# Altium integrated library TI_Logic_Flip-Flop,Latch,Register.IntLib: 2598 symbols (part 18 of 122)
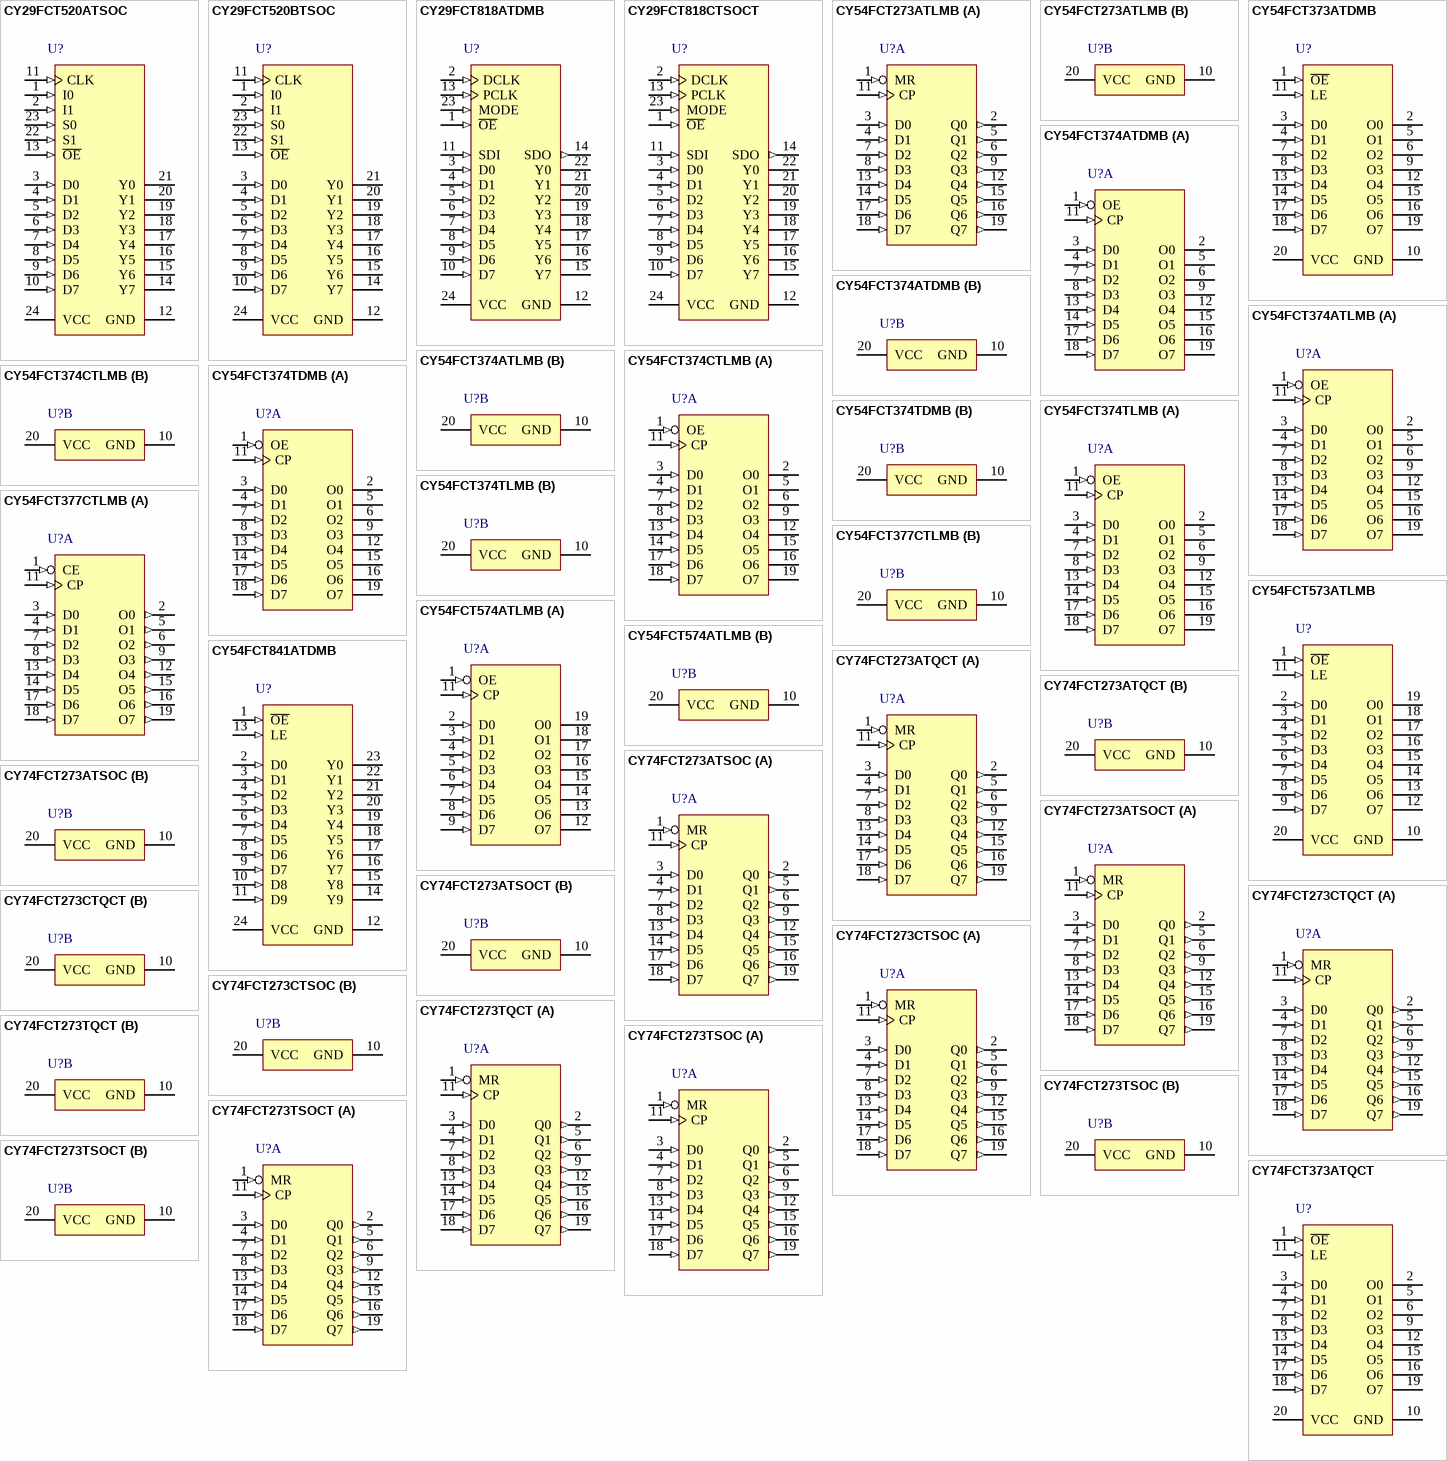
[diagram p156: symbols CY29FCT520ATSOC to CY74FCT373ATQCT]

## CY74FCT273TSOCT
designator U?
Octal D-Type Flip-Flops with Clear, DW0020A, LARGE T&R; Generic Part Number: CY74FCT273T; Manufacturer: Texas Instruments; PartNumber: CY74FCT273TSOCT; VCC(Min)(V): 4.75; VCC(Max)(V): 5.25; Output Type: CMOS; ICC @ Nom Voltage(Max)(mA): 0.2; Input Type: TTL; Bits(#): 8; F @ Nom Voltage(Max)(Mhz): 70; Rating: Catalog; Technology Family: FCT; Voltage(Nom)(V): 5; Schmitt Trigger: No; Output Drive (IOL/IOH)(Max)(mA): 64/-32; Output Logic: Non-inverted; tpd @ Nom Voltage(Max)(ns): 13; DatasheetVersion: SCCS020A; PackageReference: DW0020A; Supplier 1: Digi-Key; Supplier Part Number 1: CY74FCT273TSOCT-ND; Supplier 2: Mouser; Supplier Part Number 2: 595-CY74FCT273TSOCT; Operating Temperature Range(C): -40 to 85; 3-State Output: No; Code_JEDEC: MS-013; ComponentLink1Description: Manufacturer URL; ComponentLink1URL: http://www.ti.com/; ComponentLink2Description: Datasheet; ComponentLink2URL: http://www.ti.com/lit/ds/symlink/cy74fct273t.pdf; ComponentLink3Description: Package Specification; ComponentLink3URL: http://www.ti.com/lit/ml/mpds173a/mpds173a.pdf
footprint DW0020A_N (SOIC, 20-Leads, Body 13x7.6mm, Pitch 1.27mm, IPC Medium Density)
footprint DW0020A_M (SOIC, 20-Leads, Body 13x7.6mm, Pitch 1.27mm, IPC Low Density)
footprint DW0020A_L (SOIC, 20-Leads, Body 13x7.6mm, Pitch 1.27mm, IPC High Density)
part A pins: 1 MR (in), 2 Q0 (out), 3 D0 (in), 4 D1 (in), 5 Q1 (out), 6 Q2 (out), 7 D2 (in), 8 D3 (in), 9 Q3 (out), 11 CP (in), 12 Q4 (out), 13 D4 (in), 14 D5 (in), 15 Q5 (out), 16 Q6 (out), 17 D6 (in), 18 D7 (in), 19 Q7 (out)
part B pins: 10 GND (power), 20 VCC (power)

## CY74FCT373ATQCT
designator U?
Octal Transparent D-Type Latches with 3-State Outputs, DBQ0020A, LARGE T&R; Generic Part Number: CY74FCT373T; Manufacturer: Texas Instruments; PartNumber: CY74FCT373ATQCT; VCC(Min)(V): 4.75; VCC(Max)(V): 5.25; Output Type: CMOS; ICC @ Nom Voltage(Max)(mA): 0.2; Input Type: TTL; Bits(#): 8; F @ Nom Voltage(Max)(Mhz): 70; Rating: Catalog; Technology Family: FCT; Voltage(Nom)(V): 5; Schmitt Trigger: No; Output Drive (IOL/IOH)(Max)(mA): 64/-32; tpd @ Nom Voltage(Max)(ns): 5.2; DatasheetVersion: SCCS021B; PackageReference: DBQ0020A; Supplier 1: Digi-Key; Supplier Part Number 1: 296-14576-2-ND; Supplier 2: Digi-Key; Supplier Part Number 2: 296-14576-1-ND; Supplier 3: Digi-Key; Supplier Part Number 3: 296-14576-6-ND; Supplier 4: Mouser; Supplier Part Number 4: 595-CY74FCT373ATQCT; Operating Temperature Range(C): -40 to 85; Code_JEDEC: MO-137; ComponentLink1Description: Manufacturer URL; ComponentLink1URL: http://www.ti.com/; ComponentLink2Description: Datasheet; ComponentLink2URL: http://www.ti.com/lit/ds/symlink/cy74fct373t.pdf; ComponentLink3Description: Package Specification; ComponentLink3URL: http://www.ti.com/lit/ml/mpds210a/mpds210a.pdf
footprint DBQ0020A_N (SOP, 20-Leads, Body 8.8x4mm, Pitch 0.635mm, IPC Medium Density)
footprint DBQ0020A_M (SOP, 20-Leads, Body 8.8x4mm, Pitch 0.635mm, IPC Low Density)
footprint DBQ0020A_L (SOP, 20-Leads, Body 8.8x4mm, Pitch 0.635mm, IPC High Density)
pins: 1 ~{OE} (in), 2 O0 (hiz), 3 D0 (in), 4 D1 (in), 5 O1 (hiz), 6 O2 (hiz), 7 D2 (in), 8 D3 (in), 9 O3 (hiz), 10 GND (power), 11 LE (in), 12 O4 (hiz), 13 D4 (in), 14 D5 (in), 15 O5 (hiz), 16 O6 (hiz), 17 D6 (in), 18 D7 (in), 19 O7 (hiz), 20 VCC (power)

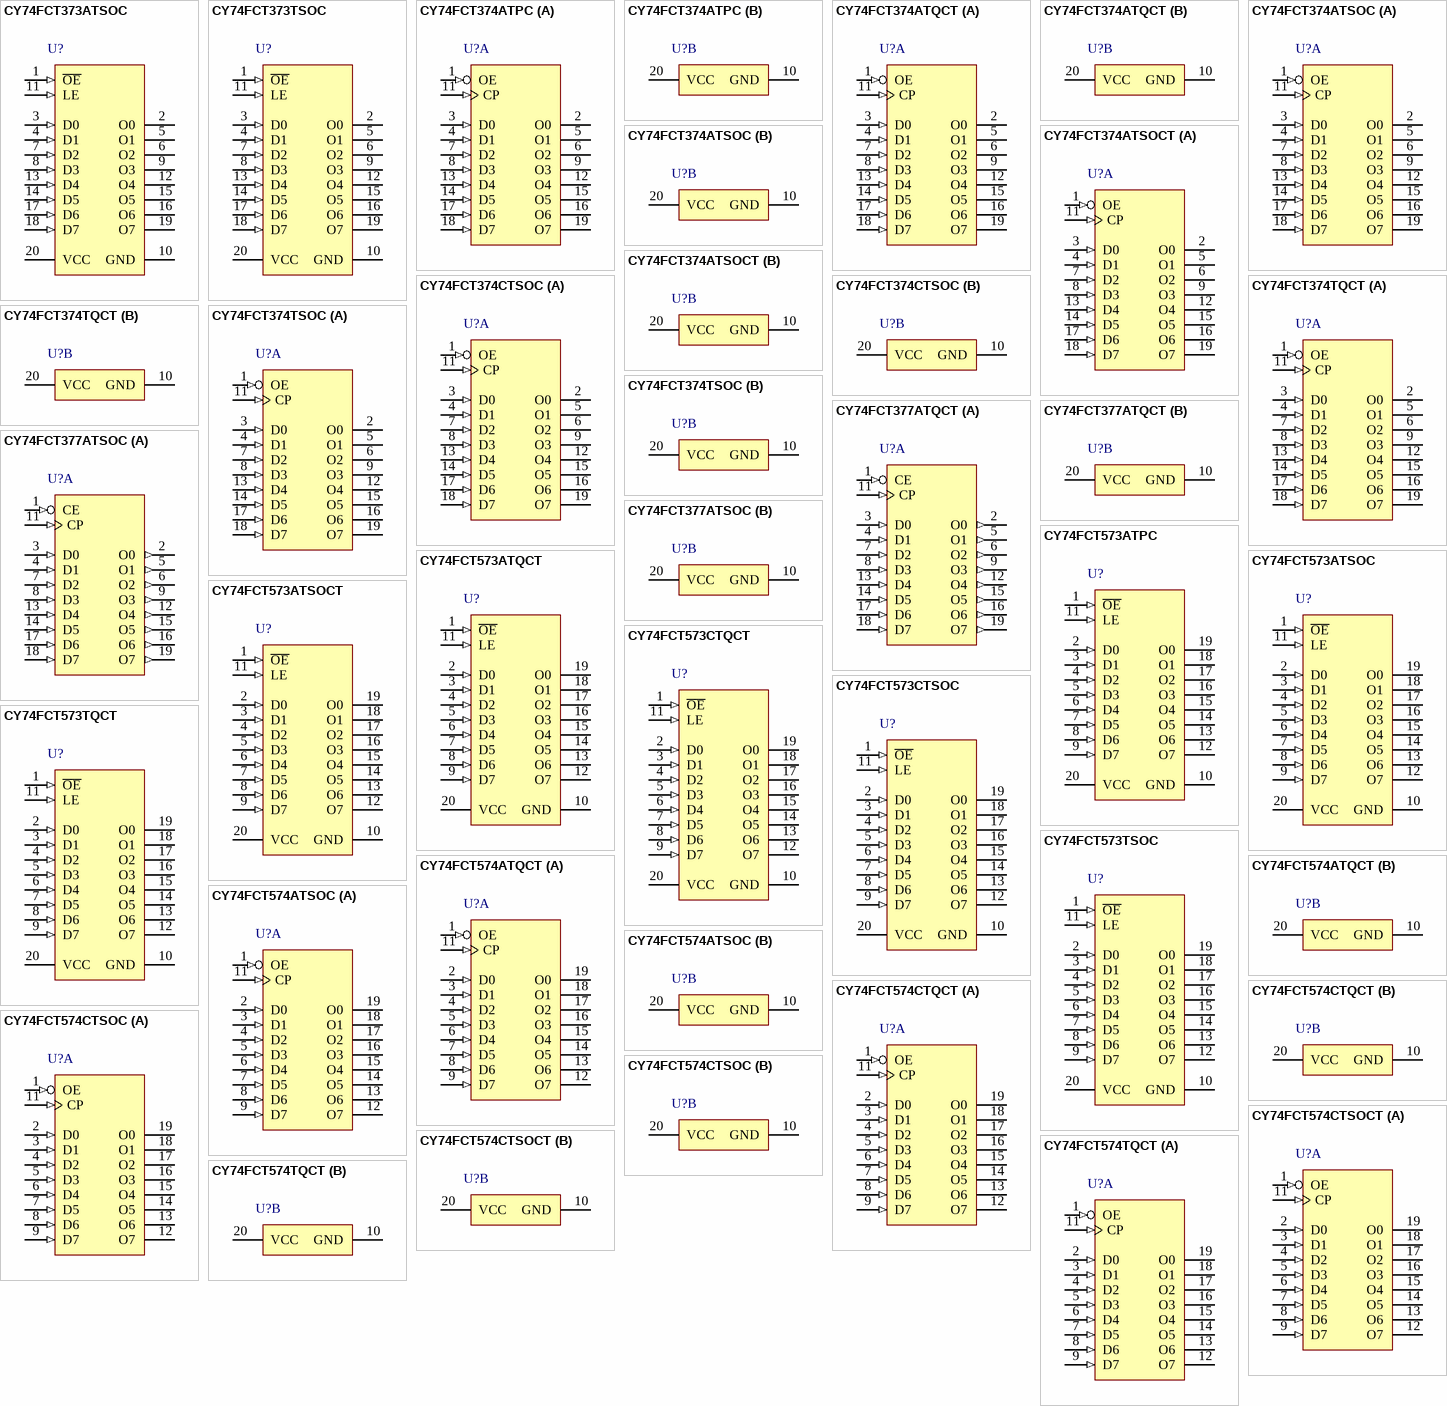
[diagram p25: symbols CY74FCT373ATSOC to CY74FCT574TQCT]

## CY74FCT373ATSOC
designator U?
Octal Transparent D-Type Latches with 3-State Outputs, DW0020A, TUBE; Generic Part Number: CY74FCT373T; Manufacturer: Texas Instruments; PartNumber: CY74FCT373ATSOC; VCC(Min)(V): 4.75; VCC(Max)(V): 5.25; Output Type: CMOS; ICC @ Nom Voltage(Max)(mA): 0.2; Input Type: TTL; Bits(#): 8; F @ Nom Voltage(Max)(Mhz): 70; Rating: Catalog; Technology Family: FCT; Voltage(Nom)(V): 5; Schmitt Trigger: No; Output Drive (IOL/IOH)(Max)(mA): 64/-32; tpd @ Nom Voltage(Max)(ns): 5.2; DatasheetVersion: SCCS021B; PackageReference: DW0020A; Supplier 1: Digi-Key; Supplier Part Number 1: 296-33231-5-ND; Supplier 2: Mouser; Supplier Part Number 2: 595-CY74FCT373ATSOC; Operating Temperature Range(C): -40 to 85; Code_JEDEC: MS-013; ComponentLink1Description: Manufacturer URL; ComponentLink1URL: http://www.ti.com/; ComponentLink2Description: Datasheet; ComponentLink2URL: http://www.ti.com/lit/ds/symlink/cy74fct373t.pdf; ComponentLink3Description: Package Specification; ComponentLink3URL: http://www.ti.com/lit/ml/mpds173a/mpds173a.pdf
footprint DW0020A_N (SOIC, 20-Leads, Body 13x7.6mm, Pitch 1.27mm, IPC Medium Density)
footprint DW0020A_M (SOIC, 20-Leads, Body 13x7.6mm, Pitch 1.27mm, IPC Low Density)
footprint DW0020A_L (SOIC, 20-Leads, Body 13x7.6mm, Pitch 1.27mm, IPC High Density)
pins: 1 ~{OE} (in), 2 O0 (hiz), 3 D0 (in), 4 D1 (in), 5 O1 (hiz), 6 O2 (hiz), 7 D2 (in), 8 D3 (in), 9 O3 (hiz), 10 GND (power), 11 LE (in), 12 O4 (hiz), 13 D4 (in), 14 D5 (in), 15 O5 (hiz), 16 O6 (hiz), 17 D6 (in), 18 D7 (in), 19 O7 (hiz), 20 VCC (power)

## CY74FCT373TSOC
designator U?
Octal Transparent D-Type Latches with 3-State Outputs, DW0020A, TUBE; Generic Part Number: CY74FCT373T; Manufacturer: Texas Instruments; PartNumber: CY74FCT373TSOC; VCC(Min)(V): 4.75; VCC(Max)(V): 5.25; Output Type: CMOS; ICC @ Nom Voltage(Max)(mA): 0.2; Input Type: TTL; Bits(#): 8; F @ Nom Voltage(Max)(Mhz): 70; Rating: Catalog; Technology Family: FCT; Voltage(Nom)(V): 5; Schmitt Trigger: No; Output Drive (IOL/IOH)(Max)(mA): 64/-32; Output Logic: Non-inverted; 3-State Output: Yes; DatasheetVersion: SCCS021B; PackageReference: DW0020A; Supplier 1: Digi-Key; Supplier Part Number 1: CY74FCT373TSOC-ND; Supplier 2: Mouser; Supplier Part Number 2: 595-CY74FCT373TSOC; Operating Temperature Range(C): -40 to 85; tpd @ Nom Voltage(Max)(ns): 8; Code_JEDEC: MS-013; ComponentLink1Description: Manufacturer URL; ComponentLink1URL: http://www.ti.com/; ComponentLink2Description: Datasheet; ComponentLink2URL: http://www.ti.com/lit/ds/symlink/cy74fct373t.pdf; ComponentLink3Description: Package Specification; ComponentLink3URL: http://www.ti.com/lit/ml/mpds173a/mpds173a.pdf
footprint DW0020A_N (SOIC, 20-Leads, Body 13x7.6mm, Pitch 1.27mm, IPC Medium Density)
footprint DW0020A_M (SOIC, 20-Leads, Body 13x7.6mm, Pitch 1.27mm, IPC Low Density)
footprint DW0020A_L (SOIC, 20-Leads, Body 13x7.6mm, Pitch 1.27mm, IPC High Density)
pins: 1 ~{OE} (in), 2 O0 (hiz), 3 D0 (in), 4 D1 (in), 5 O1 (hiz), 6 O2 (hiz), 7 D2 (in), 8 D3 (in), 9 O3 (hiz), 10 GND (power), 11 LE (in), 12 O4 (hiz), 13 D4 (in), 14 D5 (in), 15 O5 (hiz), 16 O6 (hiz), 17 D6 (in), 18 D7 (in), 19 O7 (hiz), 20 VCC (power)

## CY74FCT374ATPC
designator U?
Octal D-Type Registers with 3-State Outputs, N0020A, TUBE; Generic Part Number: CY74FCT374T; Manufacturer: Texas Instruments; PartNumber: CY74FCT374ATPC; VCC(Min)(V): 4.75; VCC(Max)(V): 5.25; Output Type: CMOS; ICC @ Nom Voltage(Max)(mA): 0.2; Input Type: TTL; Bits(#): 8; F @ Nom Voltage(Max)(Mhz): 70; Rating: Catalog; Technology Family: FCT; Voltage(Nom)(V): 5; Schmitt Trigger: No; Output Drive (IOL/IOH)(Max)(mA): 64/-32; tpd @ Nom Voltage(Max)(ns): 6.5; DatasheetVersion: SCCS022A; PackageReference: N0020A; Supplier 1: Digi-Key; Supplier Part Number 1: 296-33232-5-ND; Supplier 2: Farnell; Supplier Part Number 2: 1741459; Supplier 3: Newark; Supplier Part Number 3: 50R5545; Supplier 4: Mouser; Supplier Part Number 4: 595-CY74FCT374ATPC; Operating Temperature Range(C): -40 to 85; Code_JEDEC: MS-001; ComponentLink1Description: Manufacturer URL; ComponentLink1URL: http://www.ti.com/; ComponentLink2Description: Datasheet; ComponentLink2URL: http://www.ti.com/lit/ds/symlink/cy74fct374t.pdf; ComponentLink3Description: Package Specification; ComponentLink3URL: http://www.ti.com/lit/ml/mpdi002c/mpdi002c.pdf
footprint N0020A (DIP, 20-Leads, Body 26.9x6.6mm, Pitch 2.54mm)
part A pins: 1 OE (in), 2 O0 (hiz), 3 D0 (in), 4 D1 (in), 5 O1 (hiz), 6 O2 (hiz), 7 D2 (in), 8 D3 (in), 9 O3 (hiz), 11 CP (in), 12 O4 (hiz), 13 D4 (in), 14 D5 (in), 15 O5 (hiz), 16 O6 (hiz), 17 D6 (in), 18 D7 (in), 19 O7 (hiz)
part B pins: 10 GND (power), 20 VCC (power)

## CY74FCT374ATQCT
designator U?
Octal D-Type Registers with 3-State Outputs, DBQ0020A, LARGE T&R; Generic Part Number: CY74FCT374T; Manufacturer: Texas Instruments; PartNumber: CY74FCT374ATQCT; VCC(Min)(V): 4.75; VCC(Max)(V): 5.25; Output Type: CMOS; ICC @ Nom Voltage(Max)(mA): 0.2; Input Type: TTL; Bits(#): 8; F @ Nom Voltage(Max)(Mhz): 70; Rating: Catalog; Technology Family: FCT; Voltage(Nom)(V): 5; Schmitt Trigger: No; Output Drive (IOL/IOH)(Max)(mA): 64/-32; tpd @ Nom Voltage(Max)(ns): 6.5; DatasheetVersion: SCCS022A; PackageReference: DBQ0020A; Supplier 1: Digi-Key; Supplier Part Number 1: 296-14577-2-ND; Supplier 2: Digi-Key; Supplier Part Number 2: 296-14577-1-ND; Supplier 3: Digi-Key; Supplier Part Number 3: 296-14577-6-ND; Supplier 4: Newark; Supplier Part Number 4: 74C8998; Supplier 5: Mouser; Supplier Part Number 5: 595-CY74FCT374ATQCT; Operating Temperature Range(C): -40 to 85; Code_JEDEC: MO-137; ComponentLink1Description: Manufacturer URL; ComponentLink1URL: http://www.ti.com/; ComponentLink2Description: Datasheet; ComponentLink2URL: http://www.ti.com/lit/ds/symlink/cy74fct374t.pdf; ComponentLink3Description: Package Specification; ComponentLink3URL: http://www.ti.com/lit/ml/mpds210a/mpds210a.pdf
footprint DBQ0020A_N (SOP, 20-Leads, Body 8.8x4mm, Pitch 0.635mm, IPC Medium Density)
footprint DBQ0020A_M (SOP, 20-Leads, Body 8.8x4mm, Pitch 0.635mm, IPC Low Density)
footprint DBQ0020A_L (SOP, 20-Leads, Body 8.8x4mm, Pitch 0.635mm, IPC High Density)
part A pins: 1 OE (in), 2 O0 (hiz), 3 D0 (in), 4 D1 (in), 5 O1 (hiz), 6 O2 (hiz), 7 D2 (in), 8 D3 (in), 9 O3 (hiz), 11 CP (in), 12 O4 (hiz), 13 D4 (in), 14 D5 (in), 15 O5 (hiz), 16 O6 (hiz), 17 D6 (in), 18 D7 (in), 19 O7 (hiz)
part B pins: 10 GND (power), 20 VCC (power)

## CY74FCT374ATSOC
designator U?
Octal D-Type Registers with 3-State Outputs, DW0020A, TUBE; Generic Part Number: CY74FCT374T; Manufacturer: Texas Instruments; PartNumber: CY74FCT374ATSOC; VCC(Min)(V): 4.75; VCC(Max)(V): 5.25; Output Type: CMOS; ICC @ Nom Voltage(Max)(mA): 0.2; Input Type: TTL; Bits(#): 8; F @ Nom Voltage(Max)(Mhz): 70; Rating: Catalog; Technology Family: FCT; Voltage(Nom)(V): 5; Schmitt Trigger: No; Output Drive (IOL/IOH)(Max)(mA): 64/-32; tpd @ Nom Voltage(Max)(ns): 6.5; DatasheetVersion: SCCS022A; PackageReference: DW0020A; Supplier 1: Digi-Key; Supplier Part Number 1: 296-33233-5-ND; Supplier 2: Mouser; Supplier Part Number 2: 595-CY74FCT374ATSOC; Operating Temperature Range(C): -40 to 85; Code_JEDEC: MS-013; ComponentLink1Description: Manufacturer URL; ComponentLink1URL: http://www.ti.com/; ComponentLink2Description: Datasheet; ComponentLink2URL: http://www.ti.com/lit/ds/symlink/cy74fct374t.pdf; ComponentLink3Description: Package Specification; ComponentLink3URL: http://www.ti.com/lit/ml/mpds173a/mpds173a.pdf
footprint DW0020A_N (SOIC, 20-Leads, Body 13x7.6mm, Pitch 1.27mm, IPC Medium Density)
footprint DW0020A_M (SOIC, 20-Leads, Body 13x7.6mm, Pitch 1.27mm, IPC Low Density)
footprint DW0020A_L (SOIC, 20-Leads, Body 13x7.6mm, Pitch 1.27mm, IPC High Density)
part A pins: 1 OE (in), 2 O0 (hiz), 3 D0 (in), 4 D1 (in), 5 O1 (hiz), 6 O2 (hiz), 7 D2 (in), 8 D3 (in), 9 O3 (hiz), 11 CP (in), 12 O4 (hiz), 13 D4 (in), 14 D5 (in), 15 O5 (hiz), 16 O6 (hiz), 17 D6 (in), 18 D7 (in), 19 O7 (hiz)
part B pins: 10 GND (power), 20 VCC (power)

## CY74FCT374ATSOCT
designator U?
Octal D-Type Registers with 3-State Outputs, DW0020A, LARGE T&R; Generic Part Number: CY74FCT374T; Manufacturer: Texas Instruments; PartNumber: CY74FCT374ATSOCT; VCC(Min)(V): 4.75; VCC(Max)(V): 5.25; Output Type: CMOS; ICC @ Nom Voltage(Max)(mA): 0.2; Input Type: TTL; Bits(#): 8; F @ Nom Voltage(Max)(Mhz): 70; Rating: Catalog; Technology Family: FCT; Voltage(Nom)(V): 5; Schmitt Trigger: No; Output Drive (IOL/IOH)(Max)(mA): 64/-32; tpd @ Nom Voltage(Max)(ns): 6.5; DatasheetVersion: SCCS022A; PackageReference: DW0020A; Supplier 1: Digi-Key; Supplier Part Number 1: CY74FCT374ATSOCT-ND; Supplier 2: Mouser; Supplier Part Number 2: 595-CY74FCT374ATSOCT; Operating Temperature Range(C): -40 to 85; Code_JEDEC: MS-013; ComponentLink1Description: Manufacturer URL; ComponentLink1URL: http://www.ti.com/; ComponentLink2Description: Datasheet; ComponentLink2URL: http://www.ti.com/lit/ds/symlink/cy74fct374t.pdf; ComponentLink3Description: Package Specification; ComponentLink3URL: http://www.ti.com/lit/ml/mpds173a/mpds173a.pdf
footprint DW0020A_N (SOIC, 20-Leads, Body 13x7.6mm, Pitch 1.27mm, IPC Medium Density)
footprint DW0020A_M (SOIC, 20-Leads, Body 13x7.6mm, Pitch 1.27mm, IPC Low Density)
footprint DW0020A_L (SOIC, 20-Leads, Body 13x7.6mm, Pitch 1.27mm, IPC High Density)
part A pins: 1 OE (in), 2 O0 (hiz), 3 D0 (in), 4 D1 (in), 5 O1 (hiz), 6 O2 (hiz), 7 D2 (in), 8 D3 (in), 9 O3 (hiz), 11 CP (in), 12 O4 (hiz), 13 D4 (in), 14 D5 (in), 15 O5 (hiz), 16 O6 (hiz), 17 D6 (in), 18 D7 (in), 19 O7 (hiz)
part B pins: 10 GND (power), 20 VCC (power)

## CY74FCT374CTSOC
designator U?
Octal D-Type Registers with 3-State Outputs, DW0020A, TUBE; Generic Part Number: CY74FCT374T; Manufacturer: Texas Instruments; PartNumber: CY74FCT374CTSOC; VCC(Min)(V): 4.75; VCC(Max)(V): 5.25; Output Type: CMOS; ICC @ Nom Voltage(Max)(mA): 0.2; Input Type: TTL; Bits(#): 8; F @ Nom Voltage(Max)(Mhz): 70; Rating: Catalog; Technology Family: FCT; Voltage(Nom)(V): 5; Schmitt Trigger: No; Output Drive (IOL/IOH)(Max)(mA): 64/-32; tpd @ Nom Voltage(Max)(ns): 5.2; DatasheetVersion: SCCS022A; PackageReference: DW0020A; Supplier 1: Digi-Key; Supplier Part Number 1: CY74FCT374CTSOC-ND; Supplier 2: Mouser; Supplier Part Number 2: 595-CY74FCT374CTSOC; Operating Temperature Range(C): -40 to 85; Code_JEDEC: MS-013; ComponentLink1Description: Manufacturer URL; ComponentLink1URL: http://www.ti.com/; ComponentLink2Description: Datasheet; ComponentLink2URL: http://www.ti.com/lit/ds/symlink/cy74fct374t.pdf; ComponentLink3Description: Package Specification; ComponentLink3URL: http://www.ti.com/lit/ml/mpds173a/mpds173a.pdf
footprint DW0020A_N (SOIC, 20-Leads, Body 13x7.6mm, Pitch 1.27mm, IPC Medium Density)
footprint DW0020A_M (SOIC, 20-Leads, Body 13x7.6mm, Pitch 1.27mm, IPC Low Density)
footprint DW0020A_L (SOIC, 20-Leads, Body 13x7.6mm, Pitch 1.27mm, IPC High Density)
part A pins: 1 OE (in), 2 O0 (hiz), 3 D0 (in), 4 D1 (in), 5 O1 (hiz), 6 O2 (hiz), 7 D2 (in), 8 D3 (in), 9 O3 (hiz), 11 CP (in), 12 O4 (hiz), 13 D4 (in), 14 D5 (in), 15 O5 (hiz), 16 O6 (hiz), 17 D6 (in), 18 D7 (in), 19 O7 (hiz)
part B pins: 10 GND (power), 20 VCC (power)

## CY74FCT374TQCT
designator U?
Octal D-Type Registers with 3-State Outputs, DBQ0020A, LARGE T&R; Generic Part Number: CY74FCT374T; Manufacturer: Texas Instruments; PartNumber: CY74FCT374TQCT; VCC(Min)(V): 4.75; VCC(Max)(V): 5.25; Output Type: CMOS; ICC @ Nom Voltage(Max)(mA): 0.2; Input Type: TTL; Bits(#): 8; F @ Nom Voltage(Max)(Mhz): 70; Rating: Catalog; Technology Family: FCT; Voltage(Nom)(V): 5; Schmitt Trigger: No; Output Drive (IOL/IOH)(Max)(mA): 64/-32; Output Logic: Non-inverted; 3-State Output: Yes; tpd @ Nom Voltage(Max)(ns): 11; DatasheetVersion: SCCS022A; PackageReference: DBQ0020A; Supplier 1: Digi-Key; Supplier Part Number 1: 296-9442-2-ND; Supplier 2: Digi-Key; Supplier Part Number 2: 296-9442-1-ND; Supplier 3: Digi-Key; Supplier Part Number 3: 296-9442-6-ND; Supplier 4: Mouser; Supplier Part Number 4: 595-CY74FCT374TQCT; Operating Temperature Range(C): -40 to 85; Code_JEDEC: MO-137; ComponentLink1Description: Manufacturer URL; ComponentLink1URL: http://www.ti.com/; ComponentLink2Description: Datasheet; ComponentLink2URL: http://www.ti.com/lit/ds/symlink/cy74fct374t.pdf; ComponentLink3Description: Package Specification; ComponentLink3URL: http://www.ti.com/lit/ml/mpds210a/mpds210a.pdf
footprint DBQ0020A_N (SOP, 20-Leads, Body 8.8x4mm, Pitch 0.635mm, IPC Medium Density)
footprint DBQ0020A_M (SOP, 20-Leads, Body 8.8x4mm, Pitch 0.635mm, IPC Low Density)
footprint DBQ0020A_L (SOP, 20-Leads, Body 8.8x4mm, Pitch 0.635mm, IPC High Density)
part A pins: 1 OE (in), 2 O0 (hiz), 3 D0 (in), 4 D1 (in), 5 O1 (hiz), 6 O2 (hiz), 7 D2 (in), 8 D3 (in), 9 O3 (hiz), 11 CP (in), 12 O4 (hiz), 13 D4 (in), 14 D5 (in), 15 O5 (hiz), 16 O6 (hiz), 17 D6 (in), 18 D7 (in), 19 O7 (hiz)
part B pins: 10 GND (power), 20 VCC (power)

## CY74FCT374TSOC
designator U?
Octal D-Type Registers with 3-State Outputs, DW0020A, TUBE; Generic Part Number: CY74FCT374T; Manufacturer: Texas Instruments; PartNumber: CY74FCT374TSOC; VCC(Min)(V): 4.75; VCC(Max)(V): 5.25; Output Type: CMOS; ICC @ Nom Voltage(Max)(mA): 0.2; Input Type: TTL; Bits(#): 8; F @ Nom Voltage(Max)(Mhz): 70; Rating: Catalog; Technology Family: FCT; Voltage(Nom)(V): 5; Schmitt Trigger: No; Output Drive (IOL/IOH)(Max)(mA): 64/-32; Output Logic: Non-inverted; 3-State Output: Yes; tpd @ Nom Voltage(Max)(ns): 11; DatasheetVersion: SCCS022A; PackageReference: DW0020A; Supplier 1: Digi-Key; Supplier Part Number 1: CY74FCT374TSOC-ND; Supplier 2: Farnell; Supplier Part Number 2: 1741455; Supplier 3: Mouser; Supplier Part Number 3: 595-CY74FCT374TSOC; Operating Temperature Range(C): -40 to 85; Code_JEDEC: MS-013; ComponentLink1Description: Manufacturer URL; ComponentLink1URL: http://www.ti.com/; ComponentLink2Description: Datasheet; ComponentLink2URL: http://www.ti.com/lit/ds/symlink/cy74fct374t.pdf; ComponentLink3Description: Package Specification; ComponentLink3URL: http://www.ti.com/lit/ml/mpds173a/mpds173a.pdf
footprint DW0020A_N (SOIC, 20-Leads, Body 13x7.6mm, Pitch 1.27mm, IPC Medium Density)
footprint DW0020A_M (SOIC, 20-Leads, Body 13x7.6mm, Pitch 1.27mm, IPC Low Density)
footprint DW0020A_L (SOIC, 20-Leads, Body 13x7.6mm, Pitch 1.27mm, IPC High Density)
part A pins: 1 OE (in), 2 O0 (hiz), 3 D0 (in), 4 D1 (in), 5 O1 (hiz), 6 O2 (hiz), 7 D2 (in), 8 D3 (in), 9 O3 (hiz), 11 CP (in), 12 O4 (hiz), 13 D4 (in), 14 D5 (in), 15 O5 (hiz), 16 O6 (hiz), 17 D6 (in), 18 D7 (in), 19 O7 (hiz)
part B pins: 10 GND (power), 20 VCC (power)

## CY74FCT377ATQCT
designator U?
Octal D-Type Flip-Flops with Enable, DBQ0020A, LARGE T&R; Generic Part Number: CY74FCT377T; Manufacturer: Texas Instruments; PartNumber: CY74FCT377ATQCT; VCC(Min)(V): 4.75; VCC(Max)(V): 5.25; Output Type: CMOS; ICC @ Nom Voltage(Max)(mA): 0.2; Input Type: TTL; Bits(#): 8; F @ Nom Voltage(Max)(Mhz): 70; Rating: Catalog; Technology Family: FCT; Voltage(Nom)(V): 5; Schmitt Trigger: No; Output Drive (IOL/IOH)(Max)(mA): 64/-32; tpd @ Nom Voltage(Max)(ns): 7.2; DatasheetVersion: SCCS023A; PackageReference: DBQ0020A; Supplier 1: Digi-Key; Supplier Part Number 1: 296-43022-2-ND; Supplier 2: Digi-Key; Supplier Part Number 2: 296-43022-1-ND; Supplier 3: Digi-Key; Supplier Part Number 3: 296-43022-6-ND; Supplier 4: Mouser; Supplier Part Number 4: 595-CY74FCT377ATQCT; Operating Temperature Range(C): -40 to 85; Code_JEDEC: MO-137; ComponentLink1Description: Manufacturer URL; ComponentLink1URL: http://www.ti.com/; ComponentLink2Description: Datasheet; ComponentLink2URL: http://www.ti.com/lit/ds/symlink/cy74fct377t.pdf; ComponentLink3Description: Package Specification; ComponentLink3URL: http://www.ti.com/lit/ml/mpds210a/mpds210a.pdf
footprint DBQ0020A_N (SOP, 20-Leads, Body 8.8x4mm, Pitch 0.635mm, IPC Medium Density)
footprint DBQ0020A_M (SOP, 20-Leads, Body 8.8x4mm, Pitch 0.635mm, IPC Low Density)
footprint DBQ0020A_L (SOP, 20-Leads, Body 8.8x4mm, Pitch 0.635mm, IPC High Density)
part A pins: 1 CE (in), 2 O0 (out), 3 D0 (in), 4 D1 (in), 5 O1 (out), 6 O2 (out), 7 D2 (in), 8 D3 (in), 9 O3 (out), 11 CP (in), 12 O4 (out), 13 D4 (in), 14 D5 (in), 15 O5 (out), 16 O6 (out), 17 D6 (in), 18 D7 (in), 19 O7 (out)
part B pins: 10 GND (power), 20 VCC (power)

## CY74FCT377ATSOC
designator U?
Octal D-Type Flip-Flops with Enable, DW0020A, TUBE; Generic Part Number: CY74FCT377T; Manufacturer: Texas Instruments; PartNumber: CY74FCT377ATSOC; VCC(Min)(V): 4.75; VCC(Max)(V): 5.25; Output Type: CMOS; ICC @ Nom Voltage(Max)(mA): 0.2; Input Type: TTL; Bits(#): 8; F @ Nom Voltage(Max)(Mhz): 70; Rating: Catalog; Technology Family: FCT; Voltage(Nom)(V): 5; Schmitt Trigger: No; Output Drive (IOL/IOH)(Max)(mA): 64/-32; tpd @ Nom Voltage(Max)(ns): 7.2; DatasheetVersion: SCCS023A; PackageReference: DW0020A; Supplier 1: Digi-Key; Supplier Part Number 1: CY74FCT377ATSOC-ND; Supplier 2: Farnell; Supplier Part Number 2: 1741083; Supplier 3: Mouser; Supplier Part Number 3: 595-CY74FCT377ATSOC; Operating Temperature Range(C): -40 to 85; Code_JEDEC: MS-013; ComponentLink1Description: Manufacturer URL; ComponentLink1URL: http://www.ti.com/; ComponentLink2Description: Datasheet; ComponentLink2URL: http://www.ti.com/lit/ds/symlink/cy74fct377t.pdf; ComponentLink3Description: Package Specification; ComponentLink3URL: http://www.ti.com/lit/ml/mpds173a/mpds173a.pdf
footprint DW0020A_N (SOIC, 20-Leads, Body 13x7.6mm, Pitch 1.27mm, IPC Medium Density)
footprint DW0020A_M (SOIC, 20-Leads, Body 13x7.6mm, Pitch 1.27mm, IPC Low Density)
footprint DW0020A_L (SOIC, 20-Leads, Body 13x7.6mm, Pitch 1.27mm, IPC High Density)
part A pins: 1 CE (in), 2 O0 (out), 3 D0 (in), 4 D1 (in), 5 O1 (out), 6 O2 (out), 7 D2 (in), 8 D3 (in), 9 O3 (out), 11 CP (in), 12 O4 (out), 13 D4 (in), 14 D5 (in), 15 O5 (out), 16 O6 (out), 17 D6 (in), 18 D7 (in), 19 O7 (out)
part B pins: 10 GND (power), 20 VCC (power)

## CY74FCT573ATPC
designator U?
Octal Transparent D-Type Latches with 3-State Outputs, N0020A, TUBE; Generic Part Number: CY74FCT573T; Manufacturer: Texas Instruments; PartNumber: CY74FCT573ATPC; VCC(Min)(V): 4.75; VCC(Max)(V): 5.25; Output Type: CMOS; ICC @ Nom Voltage(Max)(mA): 0.2; Input Type: TTL; Bits(#): 8; F @ Nom Voltage(Max)(Mhz): 70; Rating: Catalog; Technology Family: FCT; Voltage(Nom)(V): 5; Schmitt Trigger: No; Output Drive (IOL/IOH)(Max)(mA): 64/-32; tpd @ Nom Voltage(Max)(ns): 5.2; DatasheetVersion: SCCS068; PackageReference: N0020A; Supplier 1: Digi-Key; Supplier Part Number 1: 296-33238-5-ND; Supplier 2: Newark; Supplier Part Number 2: 33C4053; Supplier 3: Mouser; Supplier Part Number 3: 595-CY74FCT573ATPC; Operating Temperature Range(C): -40 to 85; Code_JEDEC: MS-001; ComponentLink1Description: Manufacturer URL; ComponentLink1URL: http://www.ti.com/; ComponentLink2Description: Datasheet; ComponentLink2URL: http://www.ti.com/lit/ds/symlink/cy74fct573t.pdf; ComponentLink3Description: Package Specification; ComponentLink3URL: http://www.ti.com/lit/ml/mpdi002c/mpdi002c.pdf
footprint N0020A (DIP, 20-Leads, Body 26.9x6.6mm, Pitch 2.54mm)
pins: 1 ~{OE} (in), 2 D0 (in), 3 D1 (in), 4 D2 (in), 5 D3 (in), 6 D4 (in), 7 D5 (in), 8 D6 (in), 9 D7 (in), 10 GND (power), 11 LE (in), 12 O7 (hiz), 13 O6 (hiz), 14 O5 (hiz), 15 O4 (hiz), 16 O3 (hiz), 17 O2 (hiz), 18 O1 (hiz), 19 O0 (hiz), 20 VCC (power)

## CY74FCT573ATQCT
designator U?
Octal Transparent D-Type Latches with 3-State Outputs, DBQ0020A, LARGE T&R; Generic Part Number: CY74FCT573T; Manufacturer: Texas Instruments; PartNumber: CY74FCT573ATQCT; VCC(Min)(V): 4.75; VCC(Max)(V): 5.25; Output Type: CMOS; ICC @ Nom Voltage(Max)(mA): 0.2; Input Type: TTL; Bits(#): 8; F @ Nom Voltage(Max)(Mhz): 70; Rating: Catalog; Technology Family: FCT; Voltage(Nom)(V): 5; Schmitt Trigger: No; Output Drive (IOL/IOH)(Max)(mA): 64/-32; tpd @ Nom Voltage(Max)(ns): 5.2; DatasheetVersion: SCCS068; PackageReference: DBQ0020A; Supplier 1: Digi-Key; Supplier Part Number 1: 296-28596-2-ND; Supplier 2: Digi-Key; Supplier Part Number 2: 296-28596-1-ND; Supplier 3: Digi-Key; Supplier Part Number 3: 296-28596-6-ND; Supplier 4: Mouser; Supplier Part Number 4: 595-CY74FCT573ATQCT; Operating Temperature Range(C): -40 to 85; Code_JEDEC: MO-137; ComponentLink1Description: Manufacturer URL; ComponentLink1URL: http://www.ti.com/; ComponentLink2Description: Datasheet; ComponentLink2URL: http://www.ti.com/lit/ds/symlink/cy74fct573t.pdf; ComponentLink3Description: Package Specification; ComponentLink3URL: http://www.ti.com/lit/ml/mpds210a/mpds210a.pdf
footprint DBQ0020A_N (SOP, 20-Leads, Body 8.8x4mm, Pitch 0.635mm, IPC Medium Density)
footprint DBQ0020A_M (SOP, 20-Leads, Body 8.8x4mm, Pitch 0.635mm, IPC Low Density)
footprint DBQ0020A_L (SOP, 20-Leads, Body 8.8x4mm, Pitch 0.635mm, IPC High Density)
pins: 1 ~{OE} (in), 2 D0 (in), 3 D1 (in), 4 D2 (in), 5 D3 (in), 6 D4 (in), 7 D5 (in), 8 D6 (in), 9 D7 (in), 10 GND (power), 11 LE (in), 12 O7 (hiz), 13 O6 (hiz), 14 O5 (hiz), 15 O4 (hiz), 16 O3 (hiz), 17 O2 (hiz), 18 O1 (hiz), 19 O0 (hiz), 20 VCC (power)

## CY74FCT573ATSOC
designator U?
Octal Transparent D-Type Latches with 3-State Outputs, DW0020A, TUBE; Generic Part Number: CY74FCT573T; Manufacturer: Texas Instruments; PartNumber: CY74FCT573ATSOC; VCC(Min)(V): 4.75; VCC(Max)(V): 5.25; Output Type: CMOS; ICC @ Nom Voltage(Max)(mA): 0.2; Input Type: TTL; Bits(#): 8; F @ Nom Voltage(Max)(Mhz): 70; Rating: Catalog; Technology Family: FCT; Voltage(Nom)(V): 5; Schmitt Trigger: No; Output Drive (IOL/IOH)(Max)(mA): 64/-32; tpd @ Nom Voltage(Max)(ns): 5.2; DatasheetVersion: SCCS068; PackageReference: DW0020A; Supplier 1: Digi-Key; Supplier Part Number 1: 296-33239-5-ND; Supplier 2: Farnell; Supplier Part Number 2: 1740862; Supplier 3: Mouser; Supplier Part Number 3: 595-CY74FCT573ATSOC; Operating Temperature Range(C): -40 to 85; Code_JEDEC: MS-013; ComponentLink1Description: Manufacturer URL; ComponentLink1URL: http://www.ti.com/; ComponentLink2Description: Datasheet; ComponentLink2URL: http://www.ti.com/lit/ds/symlink/cy74fct573t.pdf; ComponentLink3Description: Package Specification; ComponentLink3URL: http://www.ti.com/lit/ml/mpds173a/mpds173a.pdf
footprint DW0020A_N (SOIC, 20-Leads, Body 13x7.6mm, Pitch 1.27mm, IPC Medium Density)
footprint DW0020A_M (SOIC, 20-Leads, Body 13x7.6mm, Pitch 1.27mm, IPC Low Density)
footprint DW0020A_L (SOIC, 20-Leads, Body 13x7.6mm, Pitch 1.27mm, IPC High Density)
pins: 1 ~{OE} (in), 2 D0 (in), 3 D1 (in), 4 D2 (in), 5 D3 (in), 6 D4 (in), 7 D5 (in), 8 D6 (in), 9 D7 (in), 10 GND (power), 11 LE (in), 12 O7 (hiz), 13 O6 (hiz), 14 O5 (hiz), 15 O4 (hiz), 16 O3 (hiz), 17 O2 (hiz), 18 O1 (hiz), 19 O0 (hiz), 20 VCC (power)

## CY74FCT573ATSOCT
designator U?
Octal Transparent D-Type Latches with 3-State Outputs, DW0020A, LARGE T&R; Generic Part Number: CY74FCT573T; Manufacturer: Texas Instruments; PartNumber: CY74FCT573ATSOCT; VCC(Min)(V): 4.75; VCC(Max)(V): 5.25; Output Type: CMOS; ICC @ Nom Voltage(Max)(mA): 0.2; Input Type: TTL; Bits(#): 8; F @ Nom Voltage(Max)(Mhz): 70; Rating: Catalog; Technology Family: FCT; Voltage(Nom)(V): 5; Schmitt Trigger: No; Output Drive (IOL/IOH)(Max)(mA): 64/-32; tpd @ Nom Voltage(Max)(ns): 5.2; DatasheetVersion: SCCS068; PackageReference: DW0020A; Supplier 1: Digi-Key; Supplier Part Number 1: 296-23216-2-ND; Supplier 2: Digi-Key; Supplier Part Number 2: 296-23216-1-ND; Supplier 3: Digi-Key; Supplier Part Number 3: 296-23216-6-ND; Supplier 4: Mouser; Supplier Part Number 4: 595-CY74FCT573ATSOCT; Operating Temperature Range(C): -40 to 85; Code_JEDEC: MS-013; ComponentLink1Description: Manufacturer URL; ComponentLink1URL: http://www.ti.com/; ComponentLink2Description: Datasheet; ComponentLink2URL: http://www.ti.com/lit/ds/symlink/cy74fct573t.pdf; ComponentLink3Description: Package Specification; ComponentLink3URL: http://www.ti.com/lit/ml/mpds173a/mpds173a.pdf
footprint DW0020A_N (SOIC, 20-Leads, Body 13x7.6mm, Pitch 1.27mm, IPC Medium Density)
footprint DW0020A_M (SOIC, 20-Leads, Body 13x7.6mm, Pitch 1.27mm, IPC Low Density)
footprint DW0020A_L (SOIC, 20-Leads, Body 13x7.6mm, Pitch 1.27mm, IPC High Density)
pins: 1 ~{OE} (in), 2 D0 (in), 3 D1 (in), 4 D2 (in), 5 D3 (in), 6 D4 (in), 7 D5 (in), 8 D6 (in), 9 D7 (in), 10 GND (power), 11 LE (in), 12 O7 (hiz), 13 O6 (hiz), 14 O5 (hiz), 15 O4 (hiz), 16 O3 (hiz), 17 O2 (hiz), 18 O1 (hiz), 19 O0 (hiz), 20 VCC (power)

## CY74FCT573CTQCT
designator U?
Octal Transparent D-Type Latches with 3-State Outputs, DBQ0020A, LARGE T&R; Generic Part Number: CY74FCT573T; Manufacturer: Texas Instruments; PartNumber: CY74FCT573CTQCT; VCC(Min)(V): 4.75; VCC(Max)(V): 5.25; Output Type: CMOS; ICC @ Nom Voltage(Max)(mA): 0.2; Input Type: TTL; Bits(#): 8; F @ Nom Voltage(Max)(Mhz): 70; Rating: Catalog; Technology Family: FCT; Voltage(Nom)(V): 5; Schmitt Trigger: No; Output Drive (IOL/IOH)(Max)(mA): 64/-32; tpd @ Nom Voltage(Max)(ns): 4.7; DatasheetVersion: SCCS068; PackageReference: DBQ0020A; Supplier 1: Digi-Key; Supplier Part Number 1: CY74FCT573CTQCT-ND; Supplier 2: Mouser; Supplier Part Number 2: 595-CY74FCT573CTQCT; Operating Temperature Range(C): -40 to 85; Code_JEDEC: MO-137; ComponentLink1Description: Manufacturer URL; ComponentLink1URL: http://www.ti.com/; ComponentLink2Description: Datasheet; ComponentLink2URL: http://www.ti.com/lit/ds/symlink/cy74fct573t.pdf; ComponentLink3Description: Package Specification; ComponentLink3URL: http://www.ti.com/lit/ml/mpds210a/mpds210a.pdf
footprint DBQ0020A_N (SOP, 20-Leads, Body 8.8x4mm, Pitch 0.635mm, IPC Medium Density)
footprint DBQ0020A_M (SOP, 20-Leads, Body 8.8x4mm, Pitch 0.635mm, IPC Low Density)
footprint DBQ0020A_L (SOP, 20-Leads, Body 8.8x4mm, Pitch 0.635mm, IPC High Density)
pins: 1 ~{OE} (in), 2 D0 (in), 3 D1 (in), 4 D2 (in), 5 D3 (in), 6 D4 (in), 7 D5 (in), 8 D6 (in), 9 D7 (in), 10 GND (power), 11 LE (in), 12 O7 (hiz), 13 O6 (hiz), 14 O5 (hiz), 15 O4 (hiz), 16 O3 (hiz), 17 O2 (hiz), 18 O1 (hiz), 19 O0 (hiz), 20 VCC (power)

## CY74FCT573CTSOC
designator U?
Octal Transparent D-Type Latches with 3-State Outputs, DW0020A, TUBE; Generic Part Number: CY74FCT573T; Manufacturer: Texas Instruments; PartNumber: CY74FCT573CTSOC; VCC(Min)(V): 4.75; VCC(Max)(V): 5.25; Output Type: CMOS; ICC @ Nom Voltage(Max)(mA): 0.2; Input Type: TTL; Bits(#): 8; F @ Nom Voltage(Max)(Mhz): 70; Rating: Catalog; Technology Family: FCT; Voltage(Nom)(V): 5; Schmitt Trigger: No; Output Drive (IOL/IOH)(Max)(mA): 64/-32; tpd @ Nom Voltage(Max)(ns): 4.7; DatasheetVersion: SCCS068; PackageReference: DW0020A; Supplier 1: Digi-Key; Supplier Part Number 1: 296-33240-5-ND; Supplier 2: Newark; Supplier Part Number 2: 74C9046; Supplier 3: Mouser; Supplier Part Number 3: 595-CY74FCT573CTSOC; Operating Temperature Range(C): -40 to 85; Code_JEDEC: MS-013; ComponentLink1Description: Manufacturer URL; ComponentLink1URL: http://www.ti.com/; ComponentLink2Description: Datasheet; ComponentLink2URL: http://www.ti.com/lit/ds/symlink/cy74fct573t.pdf; ComponentLink3Description: Package Specification; ComponentLink3URL: http://www.ti.com/lit/ml/mpds173a/mpds173a.pdf
footprint DW0020A_N (SOIC, 20-Leads, Body 13x7.6mm, Pitch 1.27mm, IPC Medium Density)
footprint DW0020A_M (SOIC, 20-Leads, Body 13x7.6mm, Pitch 1.27mm, IPC Low Density)
footprint DW0020A_L (SOIC, 20-Leads, Body 13x7.6mm, Pitch 1.27mm, IPC High Density)
pins: 1 ~{OE} (in), 2 D0 (in), 3 D1 (in), 4 D2 (in), 5 D3 (in), 6 D4 (in), 7 D5 (in), 8 D6 (in), 9 D7 (in), 10 GND (power), 11 LE (in), 12 O7 (hiz), 13 O6 (hiz), 14 O5 (hiz), 15 O4 (hiz), 16 O3 (hiz), 17 O2 (hiz), 18 O1 (hiz), 19 O0 (hiz), 20 VCC (power)

## CY74FCT573TQCT
designator U?
Octal Transparent D-Type Latches with 3-State Outputs, DBQ0020A, LARGE T&R; Generic Part Number: CY74FCT573T; Manufacturer: Texas Instruments; PartNumber: CY74FCT573TQCT; VCC(Min)(V): 4.75; VCC(Max)(V): 5.25; Output Type: CMOS; ICC @ Nom Voltage(Max)(mA): 0.2; Input Type: TTL; Bits(#): 8; F @ Nom Voltage(Max)(Mhz): 70; Rating: Catalog; Technology Family: FCT; Voltage(Nom)(V): 5; Schmitt Trigger: No; Output Drive (IOL/IOH)(Max)(mA): 64/-32; Output Logic: Non-inverted; 3-State Output: Yes; DatasheetVersion: SCCS068; PackageReference: DBQ0020A; Supplier 1: Digi-Key; Supplier Part Number 1: 296-28480-2-ND; Supplier 2: Digi-Key; Supplier Part Number 2: 296-28480-1-ND; Supplier 3: Digi-Key; Supplier Part Number 3: 296-28480-6-ND; Supplier 4: Newark; Supplier Part Number 4: 74C9048; Supplier 5: Mouser; Supplier Part Number 5: 595-CY74FCT573TQCT; Operating Temperature Range(C): -40 to 85; tpd @ Nom Voltage(Max)(ns): 8; Code_JEDEC: MO-137; ComponentLink1Description: Manufacturer URL; ComponentLink1URL: http://www.ti.com/; ComponentLink2Description: Datasheet; ComponentLink2URL: http://www.ti.com/lit/ds/symlink/cy74fct573t.pdf; ComponentLink3Description: Package Specification; ComponentLink3URL: http://www.ti.com/lit/ml/mpds210a/mpds210a.pdf
footprint DBQ0020A_N (SOP, 20-Leads, Body 8.8x4mm, Pitch 0.635mm, IPC Medium Density)
footprint DBQ0020A_M (SOP, 20-Leads, Body 8.8x4mm, Pitch 0.635mm, IPC Low Density)
footprint DBQ0020A_L (SOP, 20-Leads, Body 8.8x4mm, Pitch 0.635mm, IPC High Density)
pins: 1 ~{OE} (in), 2 D0 (in), 3 D1 (in), 4 D2 (in), 5 D3 (in), 6 D4 (in), 7 D5 (in), 8 D6 (in), 9 D7 (in), 10 GND (power), 11 LE (in), 12 O7 (hiz), 13 O6 (hiz), 14 O5 (hiz), 15 O4 (hiz), 16 O3 (hiz), 17 O2 (hiz), 18 O1 (hiz), 19 O0 (hiz), 20 VCC (power)

## CY74FCT573TSOC
designator U?
Octal Transparent D-Type Latches with 3-State Outputs, DW0020A, TUBE; Generic Part Number: CY74FCT573T; Manufacturer: Texas Instruments; PartNumber: CY74FCT573TSOC; VCC(Min)(V): 4.75; VCC(Max)(V): 5.25; Output Type: CMOS; ICC @ Nom Voltage(Max)(mA): 0.2; Input Type: TTL; Bits(#): 8; F @ Nom Voltage(Max)(Mhz): 70; Rating: Catalog; Technology Family: FCT; Voltage(Nom)(V): 5; Schmitt Trigger: No; Output Drive (IOL/IOH)(Max)(mA): 64/-32; Output Logic: Non-inverted; 3-State Output: Yes; DatasheetVersion: SCCS068; PackageReference: DW0020A; Supplier 1: Digi-Key; Supplier Part Number 1: CY74FCT573TSOC-ND; Supplier 2: Mouser; Supplier Part Number 2: 595-CY74FCT573TSOC; Operating Temperature Range(C): -40 to 85; tpd @ Nom Voltage(Max)(ns): 8; Code_JEDEC: MS-013; ComponentLink1Description: Manufacturer URL; ComponentLink1URL: http://www.ti.com/; ComponentLink2Description: Datasheet; ComponentLink2URL: http://www.ti.com/lit/ds/symlink/cy74fct573t.pdf; ComponentLink3Description: Package Specification; ComponentLink3URL: http://www.ti.com/lit/ml/mpds173a/mpds173a.pdf
footprint DW0020A_N (SOIC, 20-Leads, Body 13x7.6mm, Pitch 1.27mm, IPC Medium Density)
footprint DW0020A_M (SOIC, 20-Leads, Body 13x7.6mm, Pitch 1.27mm, IPC Low Density)
footprint DW0020A_L (SOIC, 20-Leads, Body 13x7.6mm, Pitch 1.27mm, IPC High Density)
pins: 1 ~{OE} (in), 2 D0 (in), 3 D1 (in), 4 D2 (in), 5 D3 (in), 6 D4 (in), 7 D5 (in), 8 D6 (in), 9 D7 (in), 10 GND (power), 11 LE (in), 12 O7 (hiz), 13 O6 (hiz), 14 O5 (hiz), 15 O4 (hiz), 16 O3 (hiz), 17 O2 (hiz), 18 O1 (hiz), 19 O0 (hiz), 20 VCC (power)

## CY74FCT574ATQCT
designator U?
Octal Edge-Triggered D-Type Flip-Flops with 3-State Outputs, DBQ0020A, LARGE T&R; Generic Part Number: CY74FCT574T; Manufacturer: Texas Instruments; PartNumber: CY74FCT574ATQCT; VCC(Min)(V): 4.75; VCC(Max)(V): 5.25; Output Type: CMOS; ICC @ Nom Voltage(Max)(mA): 0.2; Input Type: TTL; Bits(#): 8; F @ Nom Voltage(Max)(Mhz): 70; Rating: Catalog; Technology Family: FCT; Voltage(Nom)(V): 5; Schmitt Trigger: No; Output Drive (IOL/IOH)(Max)(mA): 64/-32; tpd @ Nom Voltage(Max)(ns): 6.5; DatasheetVersion: SCCS073; PackageReference: DBQ0020A; Supplier 1: Digi-Key; Supplier Part Number 1: 296-14580-2-ND; Supplier 2: Digi-Key; Supplier Part Number 2: 296-14580-1-ND; Supplier 3: Digi-Key; Supplier Part Number 3: 296-14580-6-ND; Supplier 4: Newark; Supplier Part Number 4: 74C9051; Supplier 5: Mouser; Supplier Part Number 5: 595-CY74FCT574ATQCT; Operating Temperature Range(C): -40 to 85; Code_JEDEC: MO-137; ComponentLink1Description: Manufacturer URL; ComponentLink1URL: http://www.ti.com/; ComponentLink2Description: Datasheet; ComponentLink2URL: http://www.ti.com/lit/ds/symlink/cy74fct574t.pdf; ComponentLink3Description: Package Specification; ComponentLink3URL: http://www.ti.com/lit/ml/mpds210a/mpds210a.pdf
footprint DBQ0020A_N (SOP, 20-Leads, Body 8.8x4mm, Pitch 0.635mm, IPC Medium Density)
footprint DBQ0020A_M (SOP, 20-Leads, Body 8.8x4mm, Pitch 0.635mm, IPC Low Density)
footprint DBQ0020A_L (SOP, 20-Leads, Body 8.8x4mm, Pitch 0.635mm, IPC High Density)
part A pins: 1 OE (in), 2 D0 (in), 3 D1 (in), 4 D2 (in), 5 D3 (in), 6 D4 (in), 7 D5 (in), 8 D6 (in), 9 D7 (in), 11 CP (in), 12 O7 (hiz), 13 O6 (hiz), 14 O5 (hiz), 15 O4 (hiz), 16 O3 (hiz), 17 O2 (hiz), 18 O1 (hiz), 19 O0 (hiz)
part B pins: 10 GND (power), 20 VCC (power)

## CY74FCT574ATSOC
designator U?
Octal Edge-Triggered D-Type Flip-Flops with 3-State Outputs, DW0020A, TUBE; Generic Part Number: CY74FCT574T; Manufacturer: Texas Instruments; PartNumber: CY74FCT574ATSOC; VCC(Min)(V): 4.75; VCC(Max)(V): 5.25; Output Type: CMOS; ICC @ Nom Voltage(Max)(mA): 0.2; Input Type: TTL; Bits(#): 8; F @ Nom Voltage(Max)(Mhz): 70; Rating: Catalog; Technology Family: FCT; Voltage(Nom)(V): 5; Schmitt Trigger: No; Output Drive (IOL/IOH)(Max)(mA): 64/-32; tpd @ Nom Voltage(Max)(ns): 6.5; DatasheetVersion: SCCS073; PackageReference: DW0020A; Supplier 1: Digi-Key; Supplier Part Number 1: 296-33241-5-ND; Supplier 2: Farnell; Supplier Part Number 2: 1741080; Supplier 3: Newark; Supplier Part Number 3: 74C9052; Supplier 4: Mouser; Supplier Part Number 4: 595-CY74FCT574ATSOC; Operating Temperature Range(C): -40 to 85; Code_JEDEC: MS-013; ComponentLink1Description: Manufacturer URL; ComponentLink1URL: http://www.ti.com/; ComponentLink2Description: Datasheet; ComponentLink2URL: http://www.ti.com/lit/ds/symlink/cy74fct574t.pdf; ComponentLink3Description: Package Specification; ComponentLink3URL: http://www.ti.com/lit/ml/mpds173a/mpds173a.pdf
footprint DW0020A_N (SOIC, 20-Leads, Body 13x7.6mm, Pitch 1.27mm, IPC Medium Density)
footprint DW0020A_M (SOIC, 20-Leads, Body 13x7.6mm, Pitch 1.27mm, IPC Low Density)
footprint DW0020A_L (SOIC, 20-Leads, Body 13x7.6mm, Pitch 1.27mm, IPC High Density)
part A pins: 1 OE (in), 2 D0 (in), 3 D1 (in), 4 D2 (in), 5 D3 (in), 6 D4 (in), 7 D5 (in), 8 D6 (in), 9 D7 (in), 11 CP (in), 12 O7 (hiz), 13 O6 (hiz), 14 O5 (hiz), 15 O4 (hiz), 16 O3 (hiz), 17 O2 (hiz), 18 O1 (hiz), 19 O0 (hiz)
part B pins: 10 GND (power), 20 VCC (power)

## CY74FCT574CTQCT
designator U?
Octal Edge-Triggered D-Type Flip-Flops with 3-State Outputs, DBQ0020A, LARGE T&R; Generic Part Number: CY74FCT574T; Manufacturer: Texas Instruments; PartNumber: CY74FCT574CTQCT; VCC(Min)(V): 4.75; VCC(Max)(V): 5.25; Output Type: CMOS; ICC @ Nom Voltage(Max)(mA): 0.2; Input Type: TTL; Bits(#): 8; F @ Nom Voltage(Max)(Mhz): 70; Rating: Catalog; Technology Family: FCT; Voltage(Nom)(V): 5; Schmitt Trigger: No; Output Drive (IOL/IOH)(Max)(mA): 64/-32; tpd @ Nom Voltage(Max)(ns): 5.2; DatasheetVersion: SCCS073; PackageReference: DBQ0020A; Supplier 1: Digi-Key; Supplier Part Number 1: 296-28481-2-ND; Supplier 2: Digi-Key; Supplier Part Number 2: 296-28481-1-ND; Supplier 3: Digi-Key; Supplier Part Number 3: 296-28481-6-ND; Supplier 4: Newark; Supplier Part Number 4: 74C9054; Supplier 5: Mouser; Supplier Part Number 5: 595-CY74FCT574CTQCT; Operating Temperature Range(C): -40 to 85; Code_JEDEC: MO-137; ComponentLink1Description: Manufacturer URL; ComponentLink1URL: http://www.ti.com/; ComponentLink2Description: Datasheet; ComponentLink2URL: http://www.ti.com/lit/ds/symlink/cy74fct574t.pdf; ComponentLink3Description: Package Specification; ComponentLink3URL: http://www.ti.com/lit/ml/mpds210a/mpds210a.pdf
footprint DBQ0020A_N (SOP, 20-Leads, Body 8.8x4mm, Pitch 0.635mm, IPC Medium Density)
footprint DBQ0020A_M (SOP, 20-Leads, Body 8.8x4mm, Pitch 0.635mm, IPC Low Density)
footprint DBQ0020A_L (SOP, 20-Leads, Body 8.8x4mm, Pitch 0.635mm, IPC High Density)
part A pins: 1 OE (in), 2 D0 (in), 3 D1 (in), 4 D2 (in), 5 D3 (in), 6 D4 (in), 7 D5 (in), 8 D6 (in), 9 D7 (in), 11 CP (in), 12 O7 (hiz), 13 O6 (hiz), 14 O5 (hiz), 15 O4 (hiz), 16 O3 (hiz), 17 O2 (hiz), 18 O1 (hiz), 19 O0 (hiz)
part B pins: 10 GND (power), 20 VCC (power)

## CY74FCT574CTSOC
designator U?
Octal Edge-Triggered D-Type Flip-Flops with 3-State Outputs, DW0020A, TUBE; Generic Part Number: CY74FCT574T; Manufacturer: Texas Instruments; PartNumber: CY74FCT574CTSOC; VCC(Min)(V): 4.75; VCC(Max)(V): 5.25; Output Type: CMOS; ICC @ Nom Voltage(Max)(mA): 0.2; Input Type: TTL; Bits(#): 8; F @ Nom Voltage(Max)(Mhz): 70; Rating: Catalog; Technology Family: FCT; Voltage(Nom)(V): 5; Schmitt Trigger: No; Output Drive (IOL/IOH)(Max)(mA): 64/-32; tpd @ Nom Voltage(Max)(ns): 5.2; DatasheetVersion: SCCS073; PackageReference: DW0020A; Supplier 1: Digi-Key; Supplier Part Number 1: 296-33242-5-ND; Supplier 2: Mouser; Supplier Part Number 2: 595-CY74FCT574CTSOC; Operating Temperature Range(C): -40 to 85; Code_JEDEC: MS-013; ComponentLink1Description: Manufacturer URL; ComponentLink1URL: http://www.ti.com/; ComponentLink2Description: Datasheet; ComponentLink2URL: http://www.ti.com/lit/ds/symlink/cy74fct574t.pdf; ComponentLink3Description: Package Specification; ComponentLink3URL: http://www.ti.com/lit/ml/mpds173a/mpds173a.pdf
footprint DW0020A_N (SOIC, 20-Leads, Body 13x7.6mm, Pitch 1.27mm, IPC Medium Density)
footprint DW0020A_M (SOIC, 20-Leads, Body 13x7.6mm, Pitch 1.27mm, IPC Low Density)
footprint DW0020A_L (SOIC, 20-Leads, Body 13x7.6mm, Pitch 1.27mm, IPC High Density)
part A pins: 1 OE (in), 2 D0 (in), 3 D1 (in), 4 D2 (in), 5 D3 (in), 6 D4 (in), 7 D5 (in), 8 D6 (in), 9 D7 (in), 11 CP (in), 12 O7 (hiz), 13 O6 (hiz), 14 O5 (hiz), 15 O4 (hiz), 16 O3 (hiz), 17 O2 (hiz), 18 O1 (hiz), 19 O0 (hiz)
part B pins: 10 GND (power), 20 VCC (power)

## CY74FCT574CTSOCT
designator U?
Octal Edge-Triggered D-Type Flip-Flops with 3-State Outputs, DW0020A, LARGE T&R; Generic Part Number: CY74FCT574T; Manufacturer: Texas Instruments; PartNumber: CY74FCT574CTSOCT; VCC(Min)(V): 4.75; VCC(Max)(V): 5.25; Output Type: CMOS; ICC @ Nom Voltage(Max)(mA): 0.2; Input Type: TTL; Bits(#): 8; F @ Nom Voltage(Max)(Mhz): 70; Rating: Catalog; Technology Family: FCT; Voltage(Nom)(V): 5; Schmitt Trigger: No; Output Drive (IOL/IOH)(Max)(mA): 64/-32; tpd @ Nom Voltage(Max)(ns): 5.2; DatasheetVersion: SCCS073; PackageReference: DW0020A; Supplier 1: Digi-Key; Supplier Part Number 1: CY74FCT574CTSOCT-ND; Supplier 2: Newark; Supplier Part Number 2: 74C9056; Supplier 3: Mouser; Supplier Part Number 3: 595-CY74FCT574CTSOCT; Operating Temperature Range(C): -40 to 85; Code_JEDEC: MS-013; ComponentLink1Description: Manufacturer URL; ComponentLink1URL: http://www.ti.com/; ComponentLink2Description: Datasheet; ComponentLink2URL: http://www.ti.com/lit/ds/symlink/cy74fct574t.pdf; ComponentLink3Description: Package Specification; ComponentLink3URL: http://www.ti.com/lit/ml/mpds173a/mpds173a.pdf
footprint DW0020A_N (SOIC, 20-Leads, Body 13x7.6mm, Pitch 1.27mm, IPC Medium Density)
footprint DW0020A_M (SOIC, 20-Leads, Body 13x7.6mm, Pitch 1.27mm, IPC Low Density)
footprint DW0020A_L (SOIC, 20-Leads, Body 13x7.6mm, Pitch 1.27mm, IPC High Density)
part A pins: 1 OE (in), 2 D0 (in), 3 D1 (in), 4 D2 (in), 5 D3 (in), 6 D4 (in), 7 D5 (in), 8 D6 (in), 9 D7 (in), 11 CP (in), 12 O7 (hiz), 13 O6 (hiz), 14 O5 (hiz), 15 O4 (hiz), 16 O3 (hiz), 17 O2 (hiz), 18 O1 (hiz), 19 O0 (hiz)
part B pins: 10 GND (power), 20 VCC (power)

## CY74FCT574TQCT
designator U?
Octal Edge-Triggered D-Type Flip-Flops with 3-State Outputs, DBQ0020A, LARGE T&R; Generic Part Number: CY74FCT574T; Manufacturer: Texas Instruments; PartNumber: CY74FCT574TQCT; VCC(Min)(V): 4.75; VCC(Max)(V): 5.25; Output Type: CMOS; ICC @ Nom Voltage(Max)(mA): 0.2; Input Type: TTL; Bits(#): 8; F @ Nom Voltage(Max)(Mhz): 70; Rating: Catalog; Technology Family: FCT; Voltage(Nom)(V): 5; Schmitt Trigger: No; Output Drive (IOL/IOH)(Max)(mA): 64/-32; Output Logic: Non-inverted; 3-State Output: Yes; tpd @ Nom Voltage(Max)(ns): 11; DatasheetVersion: SCCS073; PackageReference: DBQ0020A; Supplier 1: Digi-Key; Supplier Part Number 1: 296-14581-2-ND; Supplier 2: Digi-Key; Supplier Part Number 2: 296-14581-1-ND; Supplier 3: Digi-Key; Supplier Part Number 3: 296-14581-6-ND; Supplier 4: Mouser; Supplier Part Number 4: 595-CY74FCT574TQCT; Operating Temperature Range(C): -40 to 85; Code_JEDEC: MO-137; ComponentLink1Description: Manufacturer URL; ComponentLink1URL: http://www.ti.com/; ComponentLink2Description: Datasheet; ComponentLink2URL: http://www.ti.com/lit/ds/symlink/cy74fct574t.pdf; ComponentLink3Description: Package Specification; ComponentLink3URL: http://www.ti.com/lit/ml/mpds210a/mpds210a.pdf
footprint DBQ0020A_N (SOP, 20-Leads, Body 8.8x4mm, Pitch 0.635mm, IPC Medium Density)
footprint DBQ0020A_M (SOP, 20-Leads, Body 8.8x4mm, Pitch 0.635mm, IPC Low Density)
footprint DBQ0020A_L (SOP, 20-Leads, Body 8.8x4mm, Pitch 0.635mm, IPC High Density)
part A pins: 1 OE (in), 2 D0 (in), 3 D1 (in), 4 D2 (in), 5 D3 (in), 6 D4 (in), 7 D5 (in), 8 D6 (in), 9 D7 (in), 11 CP (in), 12 O7 (hiz), 13 O6 (hiz), 14 O5 (hiz), 15 O4 (hiz), 16 O3 (hiz), 17 O2 (hiz), 18 O1 (hiz), 19 O0 (hiz)
part B pins: 10 GND (power), 20 VCC (power)

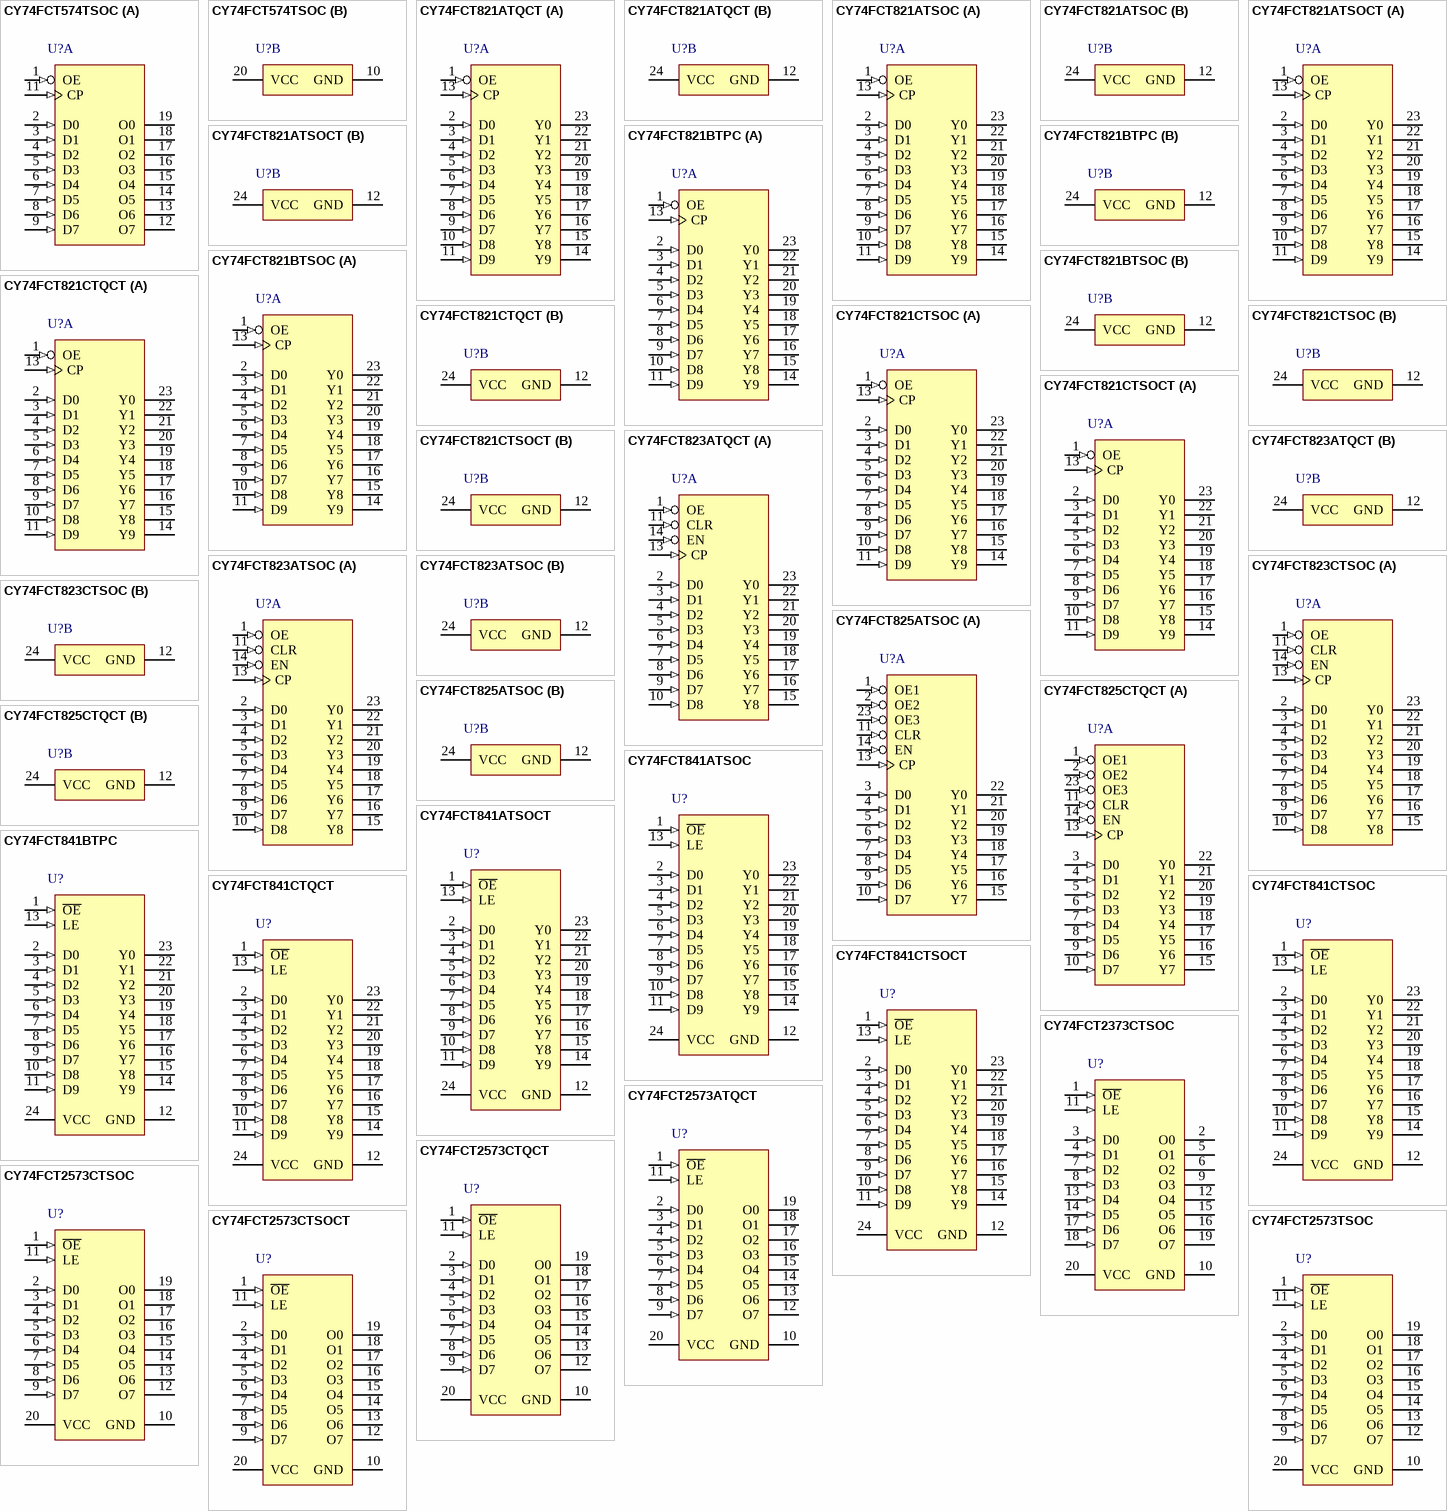
[diagram p26: symbols CY74FCT574TSOC to CY74FCT2573TSOC]

## CY74FCT574TSOC
designator U?
Octal Edge-Triggered D-Type Flip-Flops with 3-State Outputs, DW0020A, TUBE; Generic Part Number: CY74FCT574T; Manufacturer: Texas Instruments; PartNumber: CY74FCT574TSOC; VCC(Min)(V): 4.75; VCC(Max)(V): 5.25; Output Type: CMOS; ICC @ Nom Voltage(Max)(mA): 0.2; Input Type: TTL; Bits(#): 8; F @ Nom Voltage(Max)(Mhz): 70; Rating: Catalog; Technology Family: FCT; Voltage(Nom)(V): 5; Schmitt Trigger: No; Output Drive (IOL/IOH)(Max)(mA): 64/-32; Output Logic: Non-inverted; 3-State Output: Yes; tpd @ Nom Voltage(Max)(ns): 11; DatasheetVersion: SCCS073; PackageReference: DW0020A; Supplier 1: Digi-Key; Supplier Part Number 1: 296-33243-5-ND; Supplier 2: Mouser; Supplier Part Number 2: 595-CY74FCT574TSOC; Operating Temperature Range(C): -40 to 85; Code_JEDEC: MS-013; ComponentLink1Description: Manufacturer URL; ComponentLink1URL: http://www.ti.com/; ComponentLink2Description: Datasheet; ComponentLink2URL: http://www.ti.com/lit/ds/symlink/cy74fct574t.pdf; ComponentLink3Description: Package Specification; ComponentLink3URL: http://www.ti.com/lit/ml/mpds173a/mpds173a.pdf
footprint DW0020A_N (SOIC, 20-Leads, Body 13x7.6mm, Pitch 1.27mm, IPC Medium Density)
footprint DW0020A_M (SOIC, 20-Leads, Body 13x7.6mm, Pitch 1.27mm, IPC Low Density)
footprint DW0020A_L (SOIC, 20-Leads, Body 13x7.6mm, Pitch 1.27mm, IPC High Density)
part A pins: 1 OE (in), 2 D0 (in), 3 D1 (in), 4 D2 (in), 5 D3 (in), 6 D4 (in), 7 D5 (in), 8 D6 (in), 9 D7 (in), 11 CP (in), 12 O7 (hiz), 13 O6 (hiz), 14 O5 (hiz), 15 O4 (hiz), 16 O3 (hiz), 17 O2 (hiz), 18 O1 (hiz), 19 O0 (hiz)
part B pins: 10 GND (power), 20 VCC (power)

## CY74FCT821ATQCT
designator U?
10-Bit Bus Interface Flip-Flops with 3-State Outputs, DBQ0024A, LARGE T&R; Generic Part Number: CY74FCT821T; Manufacturer: Texas Instruments; PartNumber: CY74FCT821ATQCT; VCC(Min)(V): 4.75; VCC(Max)(V): 5.25; Output Type: CMOS; ICC @ Nom Voltage(Max)(mA): 0.2; Input Type: TTL; Bits(#): 10; F @ Nom Voltage(Max)(Mhz): 70; Rating: Catalog; Technology Family: FCT; Voltage(Nom)(V): 5; Schmitt Trigger: No; Output Drive (IOL/IOH)(Max)(mA): 64/-32; DatasheetVersion: SCCS033B; PackageReference: DBQ0024A; Supplier 1: Digi-Key; Supplier Part Number 1: 296-14583-2-ND; Supplier 2: Digi-Key; Supplier Part Number 2: 296-14583-1-ND; Supplier 3: Digi-Key; Supplier Part Number 3: 296-14583-6-ND; Supplier 4: Mouser; Supplier Part Number 4: 595-CY74FCT821ATQCT; Operating Temperature Range(C): -40 to 85; tpd @ Nom Voltage(Max)(ns): 10; Code_JEDEC: MO-137; ComponentLink1Description: Manufacturer URL; ComponentLink1URL: http://www.ti.com/; ComponentLink2Description: Datasheet; ComponentLink2URL: http://www.ti.com/lit/ds/symlink/cy74fct821t.pdf; ComponentLink3Description: Package Specification; ComponentLink3URL: http://www.ti.com/lit/ml/mpds211a/mpds211a.pdf
footprint DBQ0024A_N (SOP, 24-Leads, Body 8.8x4mm, Pitch 0.635mm, IPC Medium Density)
footprint DBQ0024A_M (SOP, 24-Leads, Body 8.8x4mm, Pitch 0.635mm, IPC Low Density)
footprint DBQ0024A_L (SOP, 24-Leads, Body 8.8x4mm, Pitch 0.635mm, IPC High Density)
part A pins: 1 OE (in) "Output control. When O\E\ is high, the Y outputs are in the high-impedance state. When O\E\ is low, true register data is present at the Y outputs.", 2 D0 (in) "D flip-flop data inputs", 3 D1 (in) "D flip-flop data inputs", 4 D2 (in) "D flip-flop data inputs", 5 D3 (in) "D flip-flop data inputs", 6 D4 (in) "D flip-flop data inputs", 7 D5 (in) "D flip-flop data inputs", 8 D6 (in) "D flip-flop data inputs", 9 D7 (in) "D flip-flop data inputs", 10 D8 (in) "D flip-flop data inputs", 11 D9 (in) "D flip-flop data inputs", 13 CP (in) "Clock pulse for the register. Enters data into the register on the low-to-high clock transition.", 14 Y9 (hiz) "Register 3-state outputs", 15 Y8 (hiz) "Register 3-state outputs", 16 Y7 (hiz) "Register 3-state outputs", 17 Y6 (hiz) "Register 3-state outputs", 18 Y5 (hiz) "Register 3-state outputs", 19 Y4 (hiz) "Register 3-state outputs", 20 Y3 (hiz) "Register 3-state outputs", 21 Y2 (hiz) "Register 3-state outputs", 22 Y1 (hiz) "Register 3-state outputs", 23 Y0 (hiz) "Register 3-state outputs"
part B pins: 12 GND (power), 24 VCC (power)